# EAGLE library part REG_LM2664 (library akita)
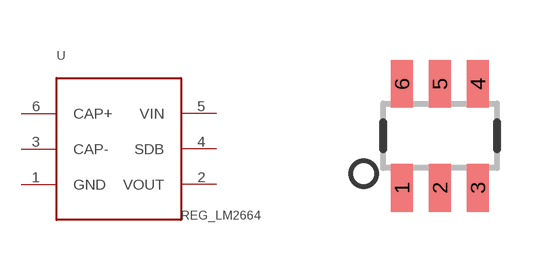
[diagram p13: symbol with the pads of SOT23-6; footprint SOT23-6]

Designator prefix U

## REG_LM2664  [SOT23-6]
1  GND  pwr
2  VOUT  pwr
3  CAP-
4  SDB  in
5  VIN  pwr
6  CAP+

## Footprint SOT23-6 (pad centres in mm)
smd 0.55 x 1.2: 1 -0.95,-1.3; 2 0,-1.3; 3 0.95,-1.3; 4 0.95,1.3; 5 0,1.3; 6 -0.95,1.3